# Altium footprint library MS561101BA03-50.PcbLib: 1 footprints
Each footprint in its own frame and in the unit in brackets; x right, y up, seen from the top. Pads: shape width x height; smd on the part's side, far side on the other; paste and mask are expansions set on the pad; w line width, h text height; cw(c..) or ccw(c..) is an arc to the next point about the centre after c.
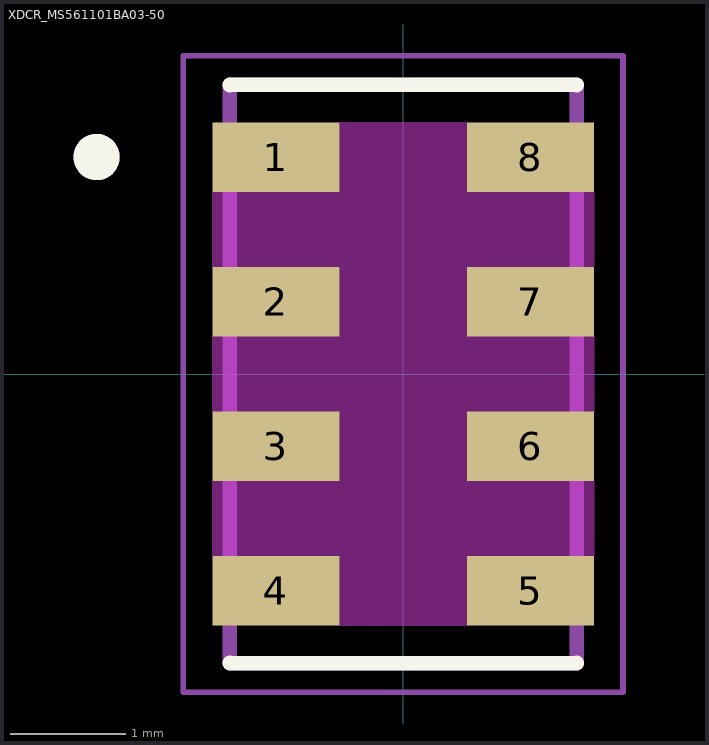
[diagram p0: the footprint, top view; thin cyan lines are the x and y axes]

## XDCR_MS561101BA03-50 [mm]
height 1.1
pads (8):
  rect 1.1x0.6 smd: 1(-1.1,1.875) 2(-1.1,0.625) 3(-1.1,-0.625) 4(-1.1,-1.875) 5(1.1,-1.875) 6(1.1,-0.625) 7(1.1,0.625) 8(1.1,1.875)
Top Overlay:
  circle w0.2: c-2.65,1.875 r0.1
  lines w0.127: -1.5,-2.495 -1.5,-2.5 1.5,-2.5 1.5,-2.495 ; -1.5,2.495 -1.5,2.5 1.5,2.5 1.5,2.495
Keep-Out Layer:
  region: 0.55,1.575 1.65,1.575 1.65,0.925 0.55,0.925 0.55,0.325 1.65,0.325 1.65,-0.325 0.55,-0.325 0.55,-0.925 1.65,-0.925 1.65,-1.575 0.55,-1.575 0.55,-2.175 -0.55,-2.175 -0.55,-1.575 -1.65,-1.575 -1.65,-0.925 -0.55,-0.925 -0.55,-0.325 -1.65,-0.325 -1.65,0.325 -0.55,0.325 -0.55,0.925 -1.65,0.925 -1.65,1.575 -0.55,1.575 -0.55,2.175 0.55,2.175
Mechanical 13:
  circle w0.2: c-2.65,1.875 r0.1
  lines w0.127: -1.5,-2.5 -1.5,2.5 1.5,2.5 1.5,-2.5 -1.5,-2.5
Mechanical 15:
  lines w0.05: -1.9,-2.75 -1.9,2.75 1.9,2.75 1.9,-2.75 -1.9,-2.75
3D body "step_temp.STEP": height 1, standoff 0, extent -1.5,-2.5 1.5,2.5